# Altium footprint library SamacSys.PcbLib: 37 footprints (part 2 of 3)
Each footprint in its own frame and in the unit in brackets; x right, y up, seen from the top. Pads: shape width x height; smd on the part's side, far side on the other; paste and mask are expansions set on the pad; w line width, h text height; cw(c..) or ccw(c..) is an arc to the next point about the centre after c.
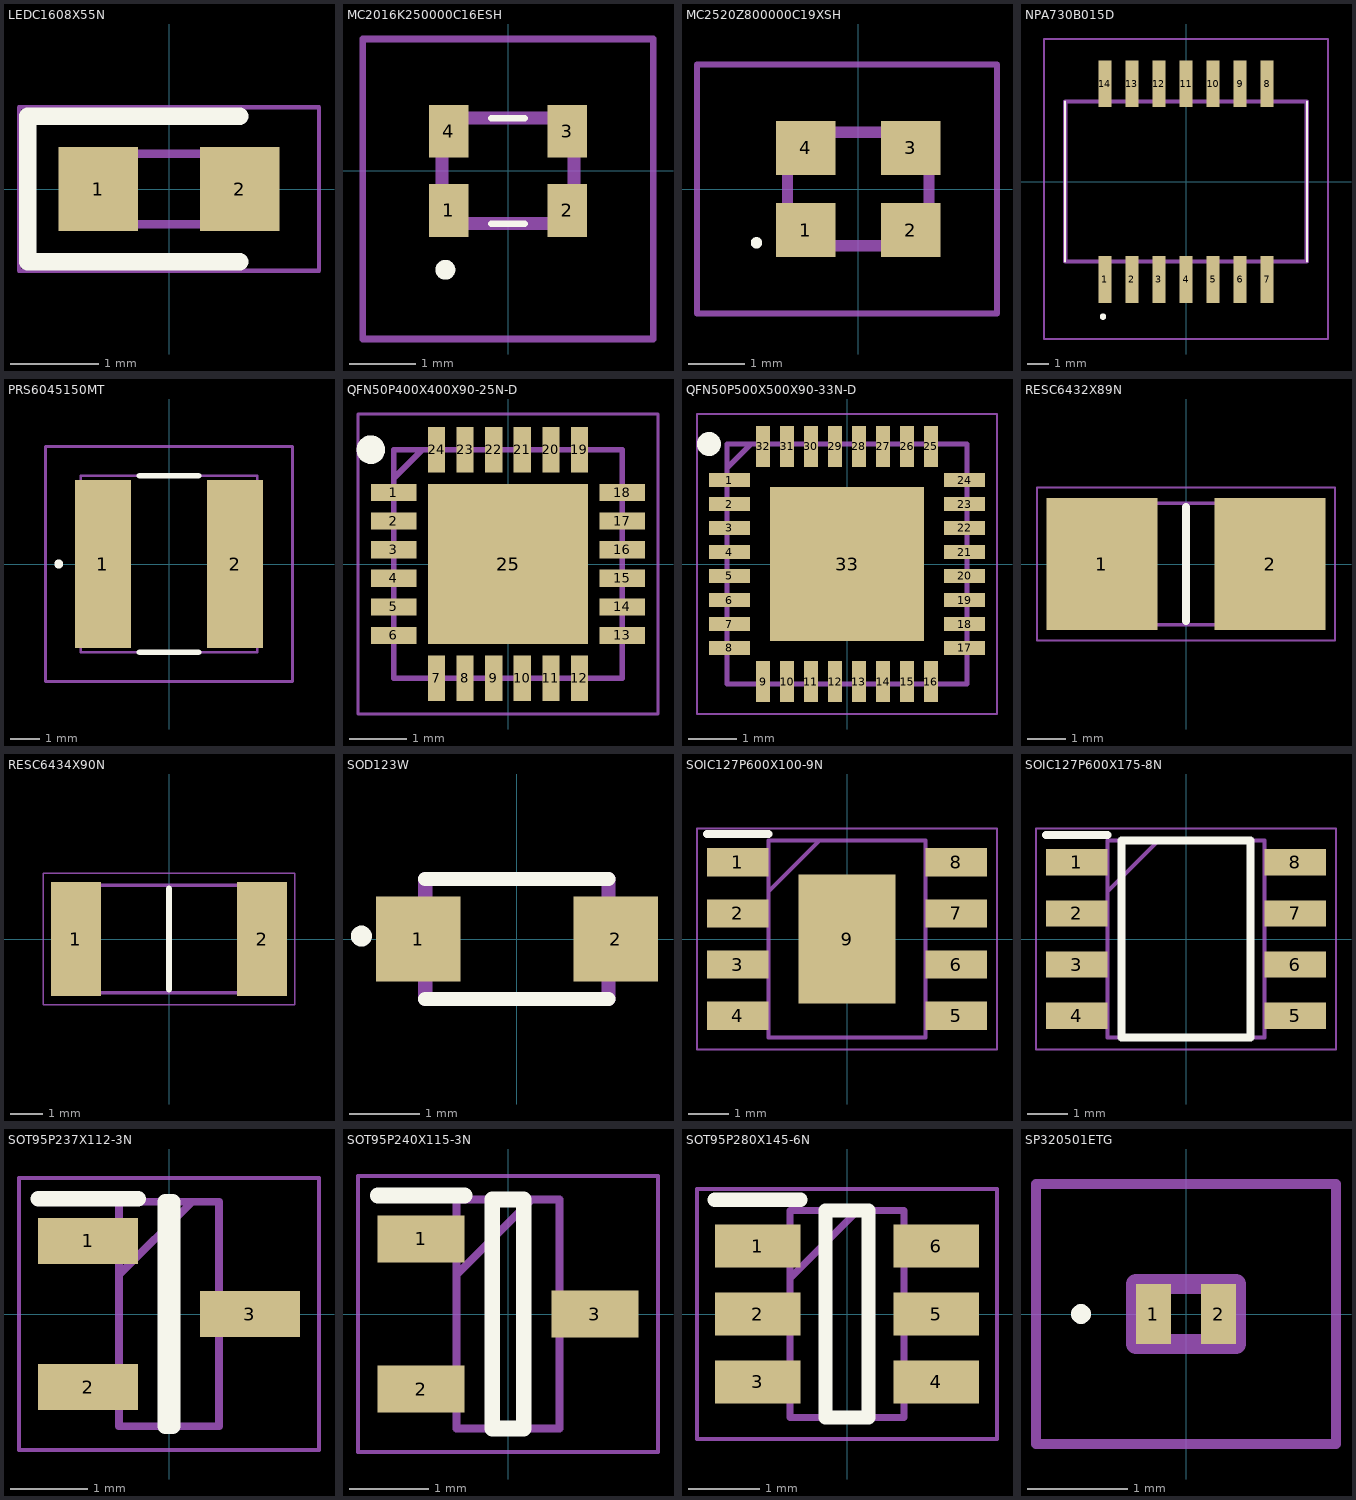
[diagram p1: the footprints below, top view; thin cyan lines are the x and y axes]

## LEDC1608X55N [mm]
pads (2):
  rect 0.9x0.95 smd: 1(-0.8,0) 2(0.8,0)
Top Overlay:
  lines w0.2: 0.8,-0.825 -1.6,-0.825 -1.6,0.825 0.8,0.825
Mechanical 13:
  lines w0.1: -0.8,0.133 -0.533,0.4 ; -0.8,-0.4 -0.8,0.4 0.8,0.4 0.8,-0.4 -0.8,-0.4
Mechanical 15:
  lines w0.05: -1.7,-0.925 -1.7,0.925 1.7,0.925 1.7,-0.925 -1.7,-0.925
3D body "LTST-C191KRKT.stp": height 0.55, standoff 0, extent -0.83,-0.4 0.77,0.4

## MC2016K250000C16ESH [mm]
pads (4):
  rect 0.6x0.8 smd: 1(-0.9,-0.6) 2(0.9,-0.6) 3(0.9,0.6) 4(-0.9,0.6)
Top Overlay:
  lines w0.1: -0.25,-0.8 0.25,-0.8 -0.25,-0.8 ; -0.25,0.8 0.25,0.8 -0.25,0.8
  lines w0.2: -1,-1.5 ccw(c-0.95,-1.5) -0.9,-1.5 ; -1,-1.5 cw(c-0.95,-1.5) -0.9,-1.5 ; -1,-1.5 ccw(c-0.95,-1.5) -0.9,-1.5
Mechanical 13:
  lines w0.2: -1,-0.8 -1,0.8 1,0.8 1,-0.8 -1,-0.8
Mechanical 15:
  lines w0.1: -2.2,-2.55 -2.2,2 2.2,2 2.2,-2.55 -2.2,-2.55
3D body "MC2016K25.0000C16ESH.stp": height 0.9, standoff 0, extent -1.14,-0.94 1.14,0.94

## MC2520Z800000C19XSH [mm]
pads (4):
  rect 1.05x0.95 smd: 1(-0.925,-0.725) 2(0.925,-0.725) 3(0.925,0.725) 4(-0.925,0.725)
Top Overlay:
  lines w0.1: -1.8,-1 cw(c-1.8,-0.95) -1.8,-0.9 cw(c-1.8,-0.95) -1.8,-1
Mechanical 13:
  lines w0.2: -1.25,-1 -1.25,1 1.25,1 1.25,-1 -1.25,-1
Mechanical 15:
  lines w0.1: -2.85,-2.2 -2.85,2.2 2.45,2.2 2.45,-2.2 -2.85,-2.2
3D body "MC2520Z8.00000C19XSH.stp": height 1, standoff 0, extent -1.355,-1.105 1.355,1.105

## NPA730B015D [mm]
pads (14):
  rect 0.6x2.2 smd: 1(-3.81,-4.6) 2(-2.54,-4.6) 3(-1.27,-4.6) 4(0,-4.6) 5(1.27,-4.6) 6(2.54,-4.6) 7(3.81,-4.6) 8(3.81,4.6) 9(2.54,4.6) 10(1.27,4.6) 11(0,4.6) 12(-1.27,4.6) 13(-2.54,4.6) 14(-3.81,4.6)
Top Overlay:
  lines w0.1: -5.68,-3.76 -5.68,3.76 ; 5.68,-3.76 5.68,3.76
  lines w0.2: -3.9,-6.4 ccw(c-3.9,-6.35) -3.9,-6.3 ccw(c-3.9,-6.35) -3.9,-6.4
Mechanical 13:
  lines w0.2: -5.68,-3.76 -5.68,3.76 5.68,3.76 5.68,-3.76 -5.68,-3.76
Mechanical 15:
  lines w0.1: -6.68,-7.4 -6.68,6.7 6.68,6.7 6.68,-7.4 -6.68,-7.4
3D body "NPA-730B-015D.stp": height 9.6, standoff 0, extent -5.68,-3.76 5.68,3.76

## PRS6045150MT [mm]
pads (2):
  rect 1.9x5.7 smd: 1(-2.25,0) 2(2.25,0)
Top Overlay:
  lines w0.2: -1,-3 1,-3 ; -1,3 1,3 ; -3.8,0 ccw(c-3.75,0) -3.7,0 ; -3.8,0 cw(c-3.75,0) -3.7,0 ; -3.8,0 ccw(c-3.75,0) -3.7,0
Mechanical 13:
  lines w0.1: -3,-3 -3,3 3,3 3,-3 -3,-3
Mechanical 15:
  lines w0.1: -4.2,-4 -4.2,4 4.2,4 4.2,-4 -4.2,-4
3D body "PRS6045-150MT.stp": height 4.6, standoff 0, extent -3.01,-3 3.01,3

## QFN50P400X400X90-25N-D [mm]
pads (25):
  rect 0.8x0.3 smd: 1(-2,1.25) 2(-2,0.75) 3(-2,0.25) 4(-2,-0.25) 5(-2,-0.75) 6(-2,-1.25) 13(2,-1.25) 14(2,-0.75) 15(2,-0.25) 16(2,0.25) 17(2,0.75) 18(2,1.25)
  rect 0.3x0.8 smd: 7(-1.25,-2) 8(-0.75,-2) 9(-0.25,-2) 10(0.25,-2) 11(0.75,-2) 12(1.25,-2) 19(1.25,2) 20(0.75,2) 21(0.25,2) 22(-0.25,2) 23(-0.75,2) 24(-1.25,2)
  rect 2.8x2.8 smd: 25(0,0)
Top Overlay:
  circle w0.25: c-2.4,2 r0.125
Mechanical 13:
  lines w0.1: -2,1.5 -1.5,2 ; -2,-2 2,-2 2,2 -2,2 -2,-2
Mechanical 15:
  lines w0.05: -2.625,-2.625 2.625,-2.625 2.625,2.625 -2.625,2.625 -2.625,-2.625
3D body "FD6288Q.stp": height 0.9, standoff 0, extent -2.05,-2.05 2.05,2.05

## QFN50P500X500X90-33N-D [mm]
pads (33):
  rect 0.85x0.3 smd: 1(-2.45,1.75) 2(-2.45,1.25) 3(-2.45,0.75) 4(-2.45,0.25) 5(-2.45,-0.25) 6(-2.45,-0.75) 7(-2.45,-1.25) 8(-2.45,-1.75) 17(2.45,-1.75) 18(2.45,-1.25) 19(2.45,-0.75) 20(2.45,-0.25) 21(2.45,0.25) 22(2.45,0.75) 23(2.45,1.25) 24(2.45,1.75)
  rect 0.3x0.85 smd: 9(-1.75,-2.45) 10(-1.25,-2.45) 11(-0.75,-2.45) 12(-0.25,-2.45) 13(0.25,-2.45) 14(0.75,-2.45) 15(1.25,-2.45) 16(1.75,-2.45) 25(1.75,2.45) 26(1.25,2.45) 27(0.75,2.45) 28(0.25,2.45) 29(-0.25,2.45) 30(-0.75,2.45) 31(-1.25,2.45) 32(-1.75,2.45)
  rect 3.2x3.2 smd: 33(0,0)
Top Overlay:
  circle w0.25: c-2.875,2.5 r0.125
Mechanical 13:
  lines w0.1: -2.5,2 -2,2.5 ; -2.5,-2.5 -2.5,2.5 2.5,2.5 2.5,-2.5 -2.5,-2.5
Mechanical 15:
  lines w0.05: -3.125,-3.125 -3.125,3.125 3.125,3.125 3.125,-3.125 -3.125,-3.125
3D body "KSZ8051MNLV_TR.stp": height 0.9, standoff 0, extent -2.55,-2.55 2.55,2.55

## RESC6432X89N [mm]
pads (2):
  rect 2.9x3.45 smd: 1(-2.2,0) 2(2.2,0)
Top Overlay:
  lines w0.2: 0,-1.49 0,1.49
Mechanical 13:
  lines w0.1: -3.175,-1.59 3.175,-1.59 3.175,1.59 -3.175,1.59 -3.175,-1.59
Mechanical 15:
  lines w0.05: -3.9,-2 3.9,-2 3.9,2 -3.9,2 -3.9,-2
3D body "WSL25121L500FEA18.stp": height 0.64, standoff 0, extent -3.175,-1.59 3.175,1.59

## RESC6434X90N [mm]
pads (2):
  rect 1.55x3.55 smd: 1(-2.9,0) 2(2.9,0)
Top Overlay:
  lines w0.2: 0,-1.575 0,1.575
Mechanical 13:
  lines w0.1: -3.225,-1.675 3.225,-1.675 3.225,1.675 -3.225,1.675 -3.225,-1.675
Mechanical 15:
  lines w0.05: -3.925,-2.05 3.925,-2.05 3.925,2.05 -3.925,2.05 -3.925,-2.05
3D body "CRA2512-FZ-R025ELF.stp": height 0.9, standoff 0, extent -3.225,-1.675 3.225,1.675

## SOD123W [mm]
pads (2):
  rect 1.2x1.2 smd: 1(-1.4,0) 2(1.4,0)
Top Overlay:
  circle w0.2: c-2.205,0.041 r0.048
  lines w0.2: -1.3,-0.85 1.3,-0.85 ; -1.3,0.85 1.3,0.85
Mechanical 13:
  lines w0.2: -1.3,-0.85 -1.3,0.85 1.3,0.85 1.3,-0.85 -1.3,-0.85
3D body "PTVS12VS1UR,115.stp": height 1.07, standoff 0, extent -1.898,-0.999 1.602,1.001

## SOIC127P600X100-9N [mm]
pads (9):
  rect 1.525x0.7 smd: 1(-2.712,1.905) 2(-2.712,0.635) 3(-2.712,-0.635) 4(-2.712,-1.905) 5(2.712,-1.905) 6(2.712,-0.635) 7(2.712,0.635) 8(2.712,1.905)
  rect 2.4x3.2 smd: 9(0,0)
Top Overlay:
  lines w0.2: -3.475,2.605 -1.95,2.605
Mechanical 13:
  lines w0.1: -1.95,1.18 -0.68,2.45 ; -1.95,-2.45 -1.95,2.45 1.95,2.45 1.95,-2.45 -1.95,-2.45
Mechanical 15:
  lines w0.05: -3.725,-2.75 -3.725,2.75 3.725,2.75 3.725,-2.75 -3.725,-2.75
3D body "BD33GC0MEFJ-ME2.stp": height 1, standoff 0, extent -3,-2.45 3,2.45

## SOIC127P600X175-8N [mm]
pads (8):
  rect 1.525x0.65 smd: 1(-2.712,1.905) 2(-2.712,0.635) 3(-2.712,-0.635) 4(-2.712,-1.905) 5(2.712,-1.905) 6(2.712,-0.635) 7(2.712,0.635) 8(2.712,1.905)
Top Overlay:
  lines w0.2: -3.475,2.58 -1.95,2.58 ; -1.6,-2.45 -1.6,2.45 1.6,2.45 1.6,-2.45 -1.6,-2.45
Mechanical 13:
  lines w0.1: -1.95,1.18 -0.68,2.45 ; -1.95,-2.45 -1.95,2.45 1.95,2.45 1.95,-2.45 -1.95,-2.45
Mechanical 15:
  lines w0.05: -3.725,-2.75 -3.725,2.75 3.725,2.75 3.725,-2.75 -3.725,-2.75
3D body "NE555DR.stp": height 1.75, standoff 0, extent -3,-2.45 3,2.45

## SOT95P237X112-3N [mm]
pads (3):
  rect 1.3x0.6 smd: 1(-1.05,0.95) 2(-1.05,-0.95) 3(1.05,0)
Top Overlay:
  lines w0.2: -1.7,1.5 -0.4,1.5 ; -0.05,-1.46 0.05,-1.46 0.05,1.46 -0.05,1.46 -0.05,-1.46
Mechanical 13:
  lines w0.1: -0.65,0.51 0.3,1.46 ; -0.65,-1.46 0.65,-1.46 0.65,1.46 -0.65,1.46 -0.65,-1.46
Mechanical 15:
  lines w0.05: -1.95,-1.77 1.95,-1.77 1.95,1.77 -1.95,1.77 -1.95,-1.77
3D body "AP2300GN-VB.stp": height 1.12, standoff 0, extent -1.185,-1.46 1.185,1.46

## SOT95P240X115-3N [mm]
pads (3):
  rect 1.1x0.6 smd: 1(-1.1,0.95) 2(-1.1,-0.95) 3(1.1,0)
Top Overlay:
  lines w0.2: -1.65,1.5 -0.55,1.5 ; -0.2,-1.45 0.2,-1.45 0.2,1.45 -0.2,1.45 -0.2,-1.45
Mechanical 13:
  lines w0.1: -0.65,0.5 0.3,1.45 ; -0.65,-1.45 0.65,-1.45 0.65,1.45 -0.65,1.45 -0.65,-1.45
Mechanical 15:
  lines w0.05: -1.9,-1.75 1.9,-1.75 1.9,1.75 -1.9,1.75 -1.9,-1.75
3D body "XC6206P332MR.stp": height 1.15, standoff 0, extent -1.2,-1.45 1.2,1.45

## SOT95P280X145-6N [mm]
pads (6):
  rect 1.2x0.6 smd: 1(-1.25,0.95) 2(-1.25,0) 3(-1.25,-0.95) 4(1.25,-0.95) 5(1.25,0) 6(1.25,0.95)
Top Overlay:
  lines w0.2: -1.85,1.6 -0.65,1.6 ; -0.3,-1.45 0.3,-1.45 0.3,1.45 -0.3,1.45 -0.3,-1.45
Mechanical 13:
  lines w0.1: -0.8,0.5 0.15,1.45 ; -0.8,-1.45 0.8,-1.45 0.8,1.45 -0.8,1.45 -0.8,-1.45
Mechanical 15:
  lines w0.05: -2.1,-1.75 2.1,-1.75 2.1,1.75 -2.1,1.75 -2.1,-1.75
3D body "MT2492.stp": height 1.45, standoff 0, extent -1.4,-1.45 1.4,1.45

## SP320501ETG [mm]
pads (2):
  rect 0.35x0.6 smd: 1(-0.325,0) 2(0.325,0)
Top Overlay:
  lines w0.1: -1.1,0 cw(c-1.05,0) -1,0 cw(c-1.05,0) -1.1,0
Mechanical 13:
  lines w0.2: -0.5,-0.3 0.5,-0.3 0.5,0.3 -0.5,0.3 -0.5,-0.3
Mechanical 15:
  lines w0.1: -1.5,-1.3 1.5,-1.3 1.5,1.3 -1.5,1.3 -1.5,-1.3
3D body "SP3205-01ETG.stp": height 0.5, standoff 0, extent -0.5,-0.304 0.5,0.304